# EAGLE library part EPSON_S1C63654 (library Epson)
S1C63654 4-Bit Microcontroller Used: -Next_Gen_Meter
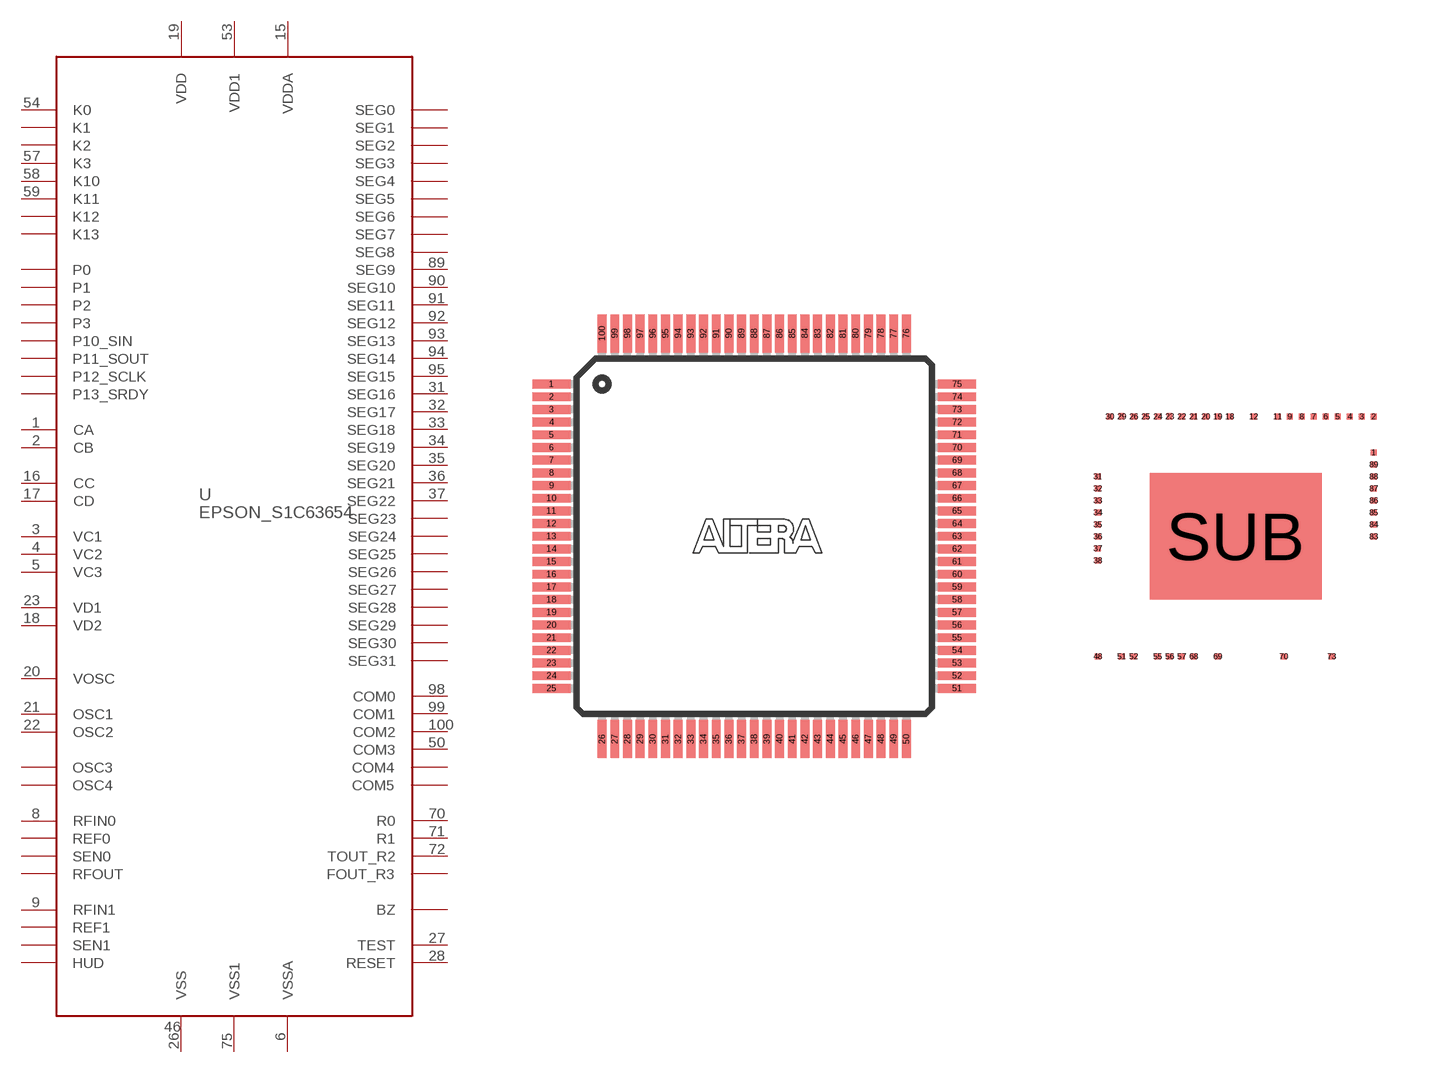
[diagram p0: symbol with the pads of TQFP100; footprints TQFP100, S1C63654]

Designator prefix U

## EPSON_S1C63654QFP15-100PIN  [TQFP100]
1  CA
2  CB
3  VC1
4  VC2
5  VC3
6  VSSA
8  RFIN0
9  RFIN1
15  VDDA
16  CC
17  CD
18  VD2
19  VDD
20  VOSC
21  OSC1
22  OSC2
23  VD1
26  VSS
27  TEST
28  RESET
31  SEG16
32  SEG17
33  SEG18
34  SEG19
35  SEG20
36  SEG21
37  SEG22
46  SUBSTRATE
50  COM3
53  VDD1
54  K0
57  K3
58  K10
59  K11
70  R0
71  R1
72  TOUT_R2
75  VSS1
89  SEG9
90  SEG10
91  SEG11
92  SEG12
93  SEG13
94  SEG14
95  SEG15
98  COM0
99  COM1
100  COM2

## EPSON_S1C63654COB  [S1C63654]
1  COM0
2  COM1
3  COM2
4  CA
5  CB
6  VC1
7  VC2
8  VC3
9  VSSA
11  RFIN0
12  RFIN1
18  VDDA
19  CC
20  CD
21  VD2
22  VDD
23  VOSC
24  OSC1
25  OSC2
26  VD1
29  VSS
30  TEST
31  RESET
32  SEG16
33  SEG17
34  SEG18
35  SEG19
36  SEG20
37  SEG21
38  SEG22
48  COM3
51  VDD1
52  K0
55  K3
56  K10
57  K11
68  R0
69  R1
70  TOUT_R2
73  VSS1
83  SEG9
84  SEG10
85  SEG11
86  SEG12
87  SEG13
88  SEG14
89  SEG15
SUB  SUBSTRATE

## Footprint TQFP100 (pad centres in mm)
Plastic Thin Quad Flat Pack
smd 1.5 x 0.35: 1 -8,6; 2 -8,5.5; 3 -8,5; 4 -8,4.5; 5 -8,4; 6 -8,3.5; 7 -8,3; 8 -8,2.5; 9 -8,2; 10 -8,1.5; 11 -8,1; 12 -8,0.5; 13 -8,0; 14 -8,-0.5; 15 -8,-1; 16 -8,-1.5; 17 -8,-2; 18 -8,-2.5; 19 -8,-3; 20 -8,-3.5; 21 -8,-4; 22 -8,-4.5; 23 -8,-5; 24 -8,-5.5; 25 -8,-6; 51 8,-6; 52 8,-5.5; 53 8,-5; 54 8,-4.5; 55 8,-4; 56 8,-3.5; 57 8,-3; 58 8,-2.5; 59 8,-2; 60 8,-1.5; 61 8,-1; 62 8,-0.5; 63 8,0; 64 8,0.5; 65 8,1; 66 8,1.5; 67 8,2; 68 8,2.5; 69 8,3; 70 8,3.5; 71 8,4; 72 8,4.5; 73 8,5; 74 8,5.5; 75 8,6
smd 0.35 x 1.5: 26 -6,-8; 27 -5.5,-8; 28 -5,-8; 29 -4.5,-8; 30 -4,-8; 31 -3.5,-8; 32 -3,-8; 33 -2.5,-8; 34 -2,-8; 35 -1.5,-8; 36 -1,-8; 37 -0.5,-8; 38 0,-8; 39 0.5,-8; 40 1,-8; 41 1.5,-8; 42 2,-8; 43 2.5,-8; 44 3,-8; 45 3.5,-8; 46 4,-8; 47 4.5,-8; 48 5,-8; 49 5.5,-8; 50 6,-8; 76 6,8; 77 5.5,8; 78 5,8; 79 4.5,8; 80 4,8; 81 3.5,8; 82 3,8; 83 2.5,8; 84 2,8; 85 1.5,8; 86 1,8; 87 0.5,8; 88 0,8; 89 -0.5,8; 90 -1,8; 91 -1.5,8; 92 -2,8; 93 -2.5,8; 94 -3,8; 95 -3.5,8; 96 -4,8; 97 -4.5,8; 98 -5,8; 99 -5.5,8; 100 -6,8

## Footprint S1C63654 (pad centres in mm)
COB with wire bonding 0.15mm grid, 0.15mm spacing
smd 0.15 x 0.15: 1 3.45,2.1; 2 3.45,3; 3 3.15,3; 4 2.85,3; 5 2.55,3; 6 2.25,3; 7 1.95,3; 8 1.65,3; 9 1.35,3; 11 1.05,3; 12 0.45,3; 18 -0.15,3; 19 -0.45,3; 20 -0.75,3; 21 -1.05,3; 22 -1.35,3; 23 -1.65,3; 24 -1.95,3; 25 -2.25,3; 26 -2.55,3; 29 -2.85,3; 30 -3.15,3; 31 -3.45,1.5; 32 -3.45,1.2; 33 -3.45,0.9; 34 -3.45,0.6; 35 -3.45,0.3; 36 -3.45,0; 37 -3.45,-0.3; 38 -3.45,-0.6; 48 -3.45,-3; 51 -2.85,-3; 52 -2.55,-3; 55 -1.95,-3; 56 -1.65,-3; 57 -1.35,-3; 68 -1.05,-3; 69 -0.45,-3; 70 1.2,-3; 73 2.4,-3; 83 3.45,0; 84 3.45,0.3; 85 3.45,0.6; 86 3.45,0.9; 87 3.45,1.2; 88 3.45,1.5; 89 3.45,1.8
smd 4.3 x 3.16: SUB 0,0